# Altium footprint library WEIDMULLER THD.PcbLib: 20 footprints (part 1 of 2)
Each footprint in its own frame and in the unit in brackets; x right, y up, seen from the top. Pads: shape width x height; smd on the part's side, far side on the other; paste and mask are expansions set on the pad; w line width, h text height; cw(c..) or ccw(c..) is an arc to the next point about the centre after c.
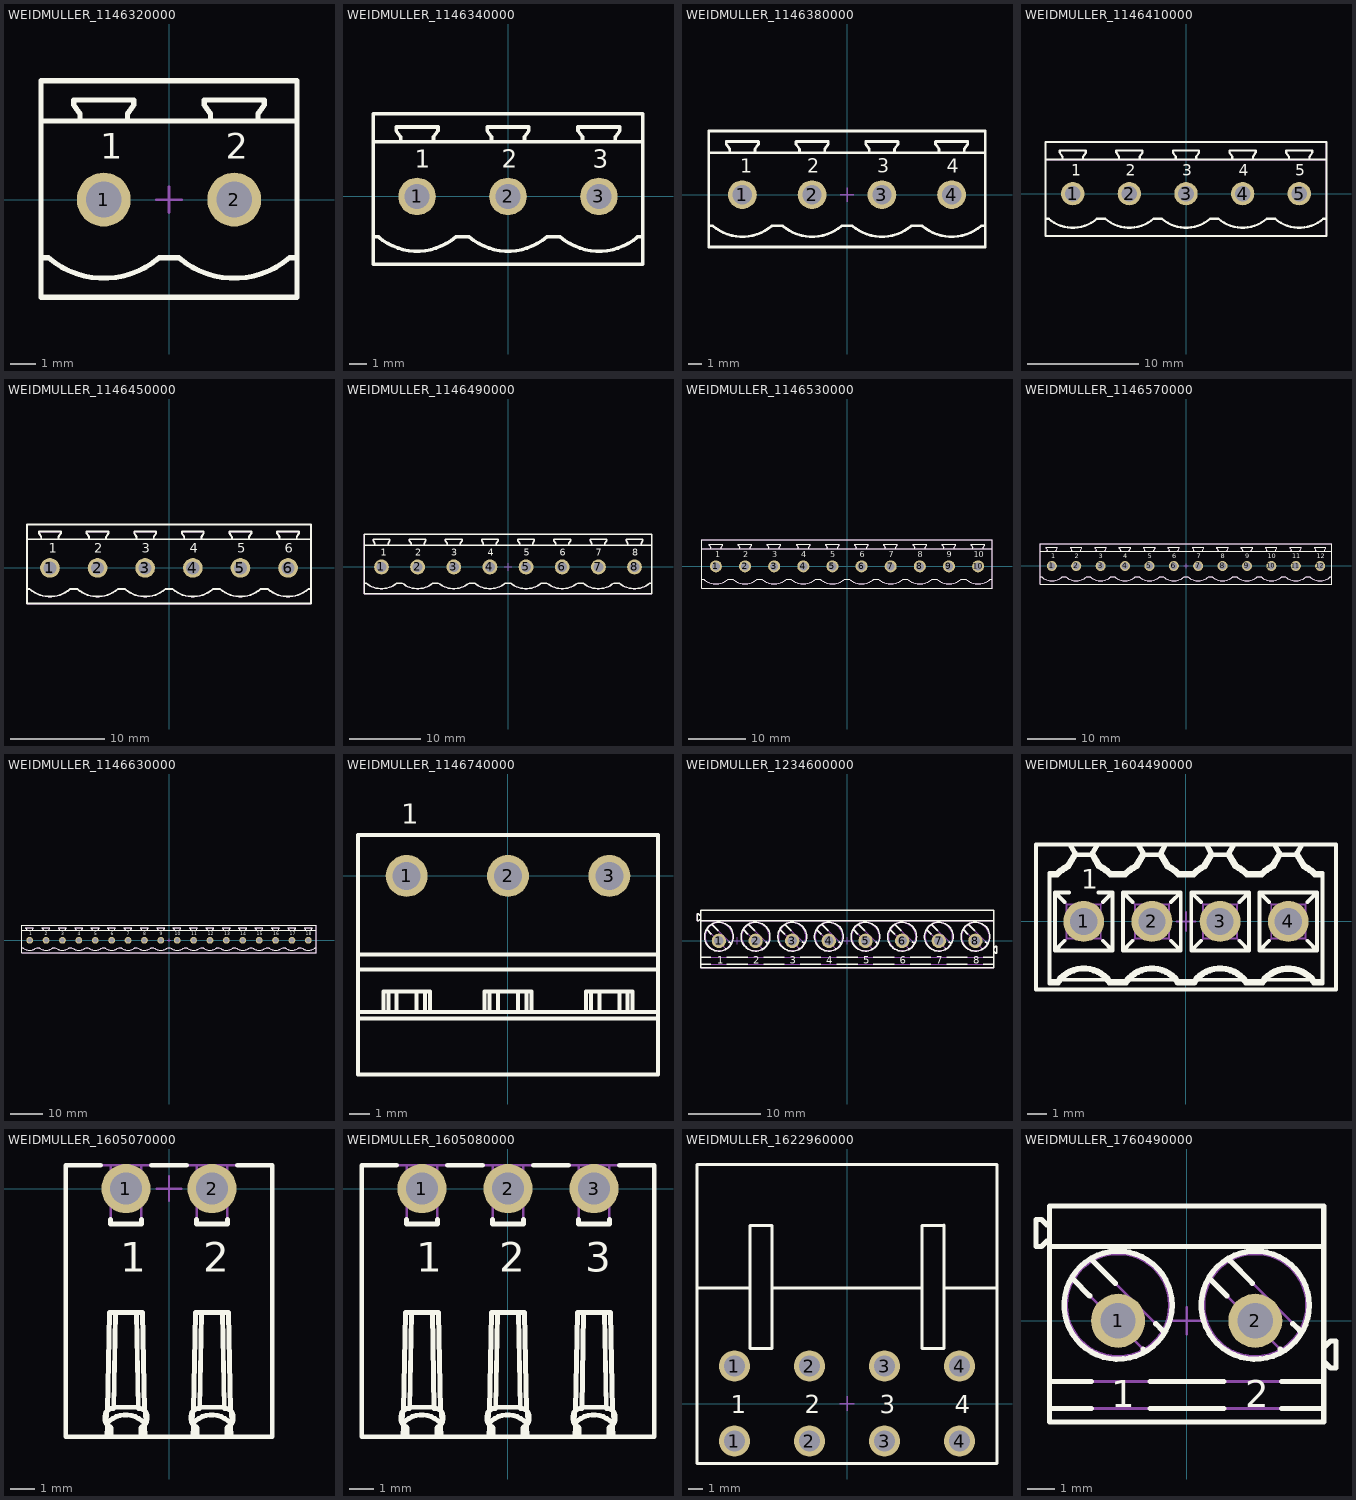
[diagram p0: the footprints below, top view; thin cyan lines are the x and y axes]

## WEIDMULLER_1146320000 [mm] "24A 400 V, Pitch 5.08mm, 2 Positions PCB Male Header, Type SL 5.08HC Serie"
height 12
pads (2):
  round 2.1 hole 1.4: 1(-2.54,0) 2(2.54,0)
Top Overlay:
  lines w0.2: -4.98,-2.26 -4.694,-2.26 ccw(c-2.54,0.24) -0.386,-2.26 0.386,-2.26 ccw(c2.54,0.24) 4.694,-2.26 4.98,-2.26 ; -4.98,3.06 4.98,3.06 ; -3.46,3.06 -3.46,3.323 -3.71,3.68 -3.71,3.88 -1.37,3.88 -1.37,3.68 -1.62,3.323 -1.62,3.06 ; 1.62,3.06 1.62,3.323 1.37,3.68 1.37,3.88 3.71,3.88 3.71,3.68 3.46,3.323 3.46,3.06 ; -4.98,-3.8 4.98,-3.8 4.98,4.63 -4.98,4.63 -4.98,-3.8
  text "2" at 2.2,1.6 h1
  text "1" at -2.675,1.6 h1
Mechanical 8:
  lines w0.1: -3.04,0 -2.54,0 ; -2.54,-0.5 -2.54,0 ; -2.54,0.5 -2.54,0 ; -2.04,0 -2.54,0 ; -0.5,0 0,0 ; 0,-0.5 0,0 ; 0,0.5 0,0 ; 0.5,0 0,0 ; 2.04,0 2.54,0 ; 2.54,-0.5 2.54,0 ; 2.54,0.5 2.54,0 ; 3.04,0 2.54,0
Mechanical 14:
  lines w0.1: -4.98,-2.26 -4.694,-2.26 ccw(c-2.54,0.24) -0.386,-2.26 0.386,-2.26 ccw(c2.54,0.24) 4.694,-2.26 4.98,-2.26 ; -4.98,3.06 4.98,3.06 ; -3.46,3.06 -3.46,3.323 -3.71,3.68 -3.71,3.88 -1.37,3.88 -1.37,3.68 -1.62,3.323 -1.62,3.06 ; 1.62,3.06 1.62,3.323 1.37,3.68 1.37,3.88 3.71,3.88 3.71,3.68 3.46,3.323 3.46,3.06 ; -4.98,-3.8 4.98,-3.8 4.98,4.63 -4.98,4.63 -4.98,-3.8 ; -3.04,-0.332 -2.872,-0.5 -2.2,-0.494 -2.04,-0.332 -2.04,0.332 -2.208,0.5 -2.872,0.5 -3.04,0.332 -3.04,-0.332 ; 2.04,-0.332 2.208,-0.5 2.88,-0.494 3.04,-0.332 3.04,0.332 2.872,0.5 2.208,0.5 2.04,0.332 2.04,-0.332
  text "1" at -2.675,1.6 h1
  text "2" at 2.2,1.6 h1
3D body: height 12, standoff -3.2, extent -4.98,-3.8 4.98,4.63

## WEIDMULLER_1146340000 [mm] "24A 400 V, Pitch 5.08mm, 3 Positions PCB Male Header, Type SL 5.08HC Serie"
height 12
pads (3):
  round 2.1 hole 1.4: 1(-5.08,0) 2(0,0) 3(5.08,0)
Top Overlay:
  lines w0.2: -7.52,-2.26 -7.234,-2.26 ccw(c-5.08,0.24) -2.926,-2.26 -2.154,-2.26 ccw(c0,0.24) 2.154,-2.26 2.926,-2.26 ccw(c5.08,0.24) 7.234,-2.26 7.52,-2.26 ; -7.52,3.06 7.52,3.06 ; -6,3.06 -6,3.323 -6.25,3.68 -6.25,3.88 -3.91,3.88 -3.91,3.68 -4.16,3.323 -4.16,3.06 ; -0.92,3.06 -0.92,3.323 -1.17,3.68 -1.17,3.88 1.17,3.88 1.17,3.68 0.92,3.323 0.92,3.06 ; 4.16,3.06 4.16,3.323 3.91,3.68 3.91,3.88 6.25,3.88 6.25,3.68 6,3.323 6,3.06 ; -7.52,-3.8 -7.52,4.63 7.52,4.63 7.52,-3.8 -7.52,-3.8
  text "3" at 4.74,1.6 h1
  text "1" at -5.215,1.6 h1
  text "2" at -0.34,1.6 h1
Mechanical 8:
  lines w0.1: -5.58,0 -5.08,0 ; -5.08,-0.5 -5.08,0 ; -5.08,0.5 -5.08,0 ; -4.58,0 -5.08,0 ; 4.58,0 5.08,0 ; 5.08,-0.5 5.08,0 ; 5.08,0.5 5.08,0 ; 5.58,0 5.08,0 ; 0,0 0,0.5 0,0 ; 0,0 0.5,0 0,0 ; 0,0 0,-0.5 0,0 ; 0,0 -0.5,0 0,0
Mechanical 14:
  lines w0.1: -7.52,-2.26 -7.234,-2.26 ccw(c-5.08,0.24) -2.926,-2.26 -2.154,-2.26 ccw(c0,0.24) 2.154,-2.26 2.926,-2.26 ccw(c5.08,0.24) 7.234,-2.26 7.52,-2.26 ; -7.52,3.06 7.52,3.06 ; -6,3.06 -6,3.323 -6.25,3.68 -6.25,3.88 -3.91,3.88 -3.91,3.68 -4.16,3.323 -4.16,3.06 ; -0.92,3.06 -0.92,3.323 -1.17,3.68 -1.17,3.88 1.17,3.88 1.17,3.68 0.92,3.323 0.92,3.06 ; 4.16,3.06 4.16,3.323 3.91,3.68 3.91,3.88 6.25,3.88 6.25,3.68 6,3.323 6,3.06 ; -7.52,-3.8 -7.52,4.63 7.52,4.63 7.52,-3.8 -7.52,-3.8 ; -5.58,-0.332 -5.58,0.332 -5.412,0.5 -4.748,0.5 -4.58,0.332 -4.58,-0.332 -4.74,-0.494 -5.412,-0.5 -5.58,-0.332 ; -0.5,-0.332 -0.5,0.332 -0.332,0.5 0.332,0.5 0.5,0.332 0.5,-0.332 0.34,-0.494 -0.332,-0.5 -0.5,-0.332 ; 4.58,-0.332 4.58,0.332 4.748,0.5 5.412,0.5 5.58,0.332 5.58,-0.332 5.42,-0.494 4.748,-0.5 4.58,-0.332
  text "3" at 4.74,1.6 h1
  text "2" at -0.34,1.6 h1
  text "1" at -5.215,1.6 h1
3D body: height 12, standoff -3.2, extent -7.52,-3.8 7.52,4.63

## WEIDMULLER_1146380000 [mm] "24A 400 V, Pitch 5.08mm, 4 Positions PCB Male Header, Type SL 5.08HC Serie"
height 12
pads (4):
  round 2.1 hole 1.4: 1(-7.62,0) 2(-2.54,0) 3(2.54,0) 4(7.62,0)
Top Overlay:
  lines w0.2: -10.06,-2.26 -9.774,-2.26 ccw(c-7.62,0.24) -5.466,-2.26 -4.694,-2.26 ccw(c-2.54,0.24) -0.386,-2.26 0.386,-2.26 ccw(c2.54,0.24) 4.694,-2.26 5.466,-2.26 ccw(c7.62,0.24) 9.774,-2.26 10.06,-2.26 ; -10.06,3.06 10.06,3.06 ; -8.54,3.06 -8.54,3.323 -8.79,3.68 -8.79,3.88 -6.45,3.88 -6.45,3.68 -6.7,3.323 -6.7,3.06 ; -3.46,3.06 -3.46,3.323 -3.71,3.68 -3.71,3.88 -1.37,3.88 -1.37,3.68 -1.62,3.323 -1.62,3.06 ; 1.62,3.06 1.62,3.323 1.37,3.68 1.37,3.88 3.71,3.88 3.71,3.68 3.46,3.323 3.46,3.06 ; 6.7,3.06 6.7,3.323 6.45,3.68 6.45,3.88 8.79,3.88 8.79,3.68 8.54,3.323 8.54,3.06 ; -10.06,-3.8 10.06,-3.8 10.06,4.63 -10.06,4.63 -10.06,-3.8
  text "2" at -2.88,1.6 h1
  text "1" at -7.755,1.6 h1
  text "3" at 2.2,1.6 h1
  text "4" at 7.28,1.6 h1
Mechanical 8:
  lines w0.1: -8.12,0 -7.62,0 ; -7.62,-0.5 -7.62,0 ; -7.62,0.5 -7.62,0 ; -7.12,0 -7.62,0 ; 7.12,0 7.62,0 ; 7.62,-0.5 7.62,0 ; 7.62,0.5 7.62,0 ; 8.12,0 7.62,0 ; -2.54,0 -3.04,0 -2.54,0 ; -2.54,0 -2.54,-0.5 -2.54,0 ; -2.54,0 -2.04,0 -2.54,0 ; -2.54,0 -2.54,0.5 -2.54,0 ; 0,0 -0.5,0 0,0 ; 0,0 0,-0.5 0,0 ; 0,0 0.5,0 0,0 ; 0,0 0,0.5 0,0 ; 2.54,0 2.04,0 2.54,0 ; 2.54,0 2.54,-0.5 2.54,0 ; 2.54,0 3.04,0 2.54,0 ; 2.54,0 2.54,0.5 2.54,0
Mechanical 14:
  lines w0.1: -10.06,-2.26 -9.774,-2.26 ccw(c-7.62,0.24) -5.466,-2.26 -4.694,-2.26 ccw(c-2.54,0.24) -0.386,-2.26 0.386,-2.26 ccw(c2.54,0.24) 4.694,-2.26 5.466,-2.26 ccw(c7.62,0.24) 9.774,-2.26 10.06,-2.26 ; -10.06,3.06 10.06,3.06 ; -8.54,3.06 -8.54,3.323 -8.79,3.68 -8.79,3.88 -6.45,3.88 -6.45,3.68 -6.7,3.323 -6.7,3.06 ; -3.46,3.06 -3.46,3.323 -3.71,3.68 -3.71,3.88 -1.37,3.88 -1.37,3.68 -1.62,3.323 -1.62,3.06 ; 1.62,3.06 1.62,3.323 1.37,3.68 1.37,3.88 3.71,3.88 3.71,3.68 3.46,3.323 3.46,3.06 ; 6.7,3.06 6.7,3.323 6.45,3.68 6.45,3.88 8.79,3.88 8.79,3.68 8.54,3.323 8.54,3.06 ; -10.06,-3.8 10.06,-3.8 10.06,4.63 -10.06,4.63 -10.06,-3.8 ; -8.12,-0.332 -7.952,-0.5 -7.28,-0.494 -7.12,-0.332 -7.12,0.332 -7.288,0.5 -7.952,0.5 -8.12,0.332 -8.12,-0.332 ; -3.04,-0.332 -2.872,-0.5 -2.2,-0.494 -2.04,-0.332 -2.04,0.332 -2.208,0.5 -2.872,0.5 -3.04,0.332 -3.04,-0.332 ; 2.04,-0.332 2.208,-0.5 2.88,-0.494 3.04,-0.332 3.04,0.332 2.872,0.5 2.208,0.5 2.04,0.332 2.04,-0.332 ; 7.12,-0.332 7.288,-0.5 7.96,-0.494 8.12,-0.332 8.12,0.332 7.952,0.5 7.288,0.5 7.12,0.332 7.12,-0.332
  text "1" at -7.755,1.6 h1
  text "2" at -2.88,1.6 h1
  text "3" at 2.2,1.6 h1
  text "4" at 7.28,1.6 h1
3D body: height 12, standoff -3.2, extent -10.06,-3.8 10.06,4.63

## WEIDMULLER_1146410000 [mm] "24A 400 V, Pitch 5.08mm, 5 Positions PCB Male Header, Type SL 5.08HC Serie"
height 12
pads (5):
  round 2.1 hole 1.4: 1(-10.16,0) 2(-5.08,0) 3(0,0) 4(5.08,0) 5(10.16,0)
Top Overlay:
  lines w0.2: -12.6,-2.26 -12.314,-2.26 ccw(c-10.16,0.24) -8.006,-2.26 -7.234,-2.26 ccw(c-5.08,0.24) -2.926,-2.26 -2.154,-2.26 ccw(c0,0.24) 2.154,-2.26 2.926,-2.26 ccw(c5.08,0.24) 7.234,-2.26 8.006,-2.26 ccw(c10.16,0.24) 12.314,-2.26 12.6,-2.26 ; -12.6,3.06 12.6,3.06 ; -11.08,3.06 -11.08,3.323 -11.33,3.68 -11.33,3.88 -8.99,3.88 -8.99,3.68 -9.24,3.323 -9.24,3.06 ; -6,3.06 -6,3.323 -6.25,3.68 -6.25,3.88 -3.91,3.88 -3.91,3.68 -4.16,3.323 -4.16,3.06 ; -0.92,3.06 -0.92,3.323 -1.17,3.68 -1.17,3.88 1.17,3.88 1.17,3.68 0.92,3.323 0.92,3.06 ; 4.16,3.06 4.16,3.323 3.91,3.68 3.91,3.88 6.25,3.88 6.25,3.68 6,3.323 6,3.06 ; 9.24,3.06 9.24,3.323 8.99,3.68 8.99,3.88 11.33,3.88 11.33,3.68 11.08,3.323 11.08,3.06 ; -12.6,-3.8 -12.6,4.63 12.6,4.63 12.6,-3.8 -12.6,-3.8
  text "5" at 9.82,1.6 h1
  text "4" at 4.74,1.6 h1
  text "2" at -5.42,1.6 h1
  text "1" at -10.295,1.6 h1
  text "3" at -0.34,1.6 h1
Mechanical 8:
  lines w0.1: -10.66,0 -10.16,0 ; -10.16,-0.5 -10.16,0 ; -10.16,0.5 -10.16,0 ; -9.66,0 -10.16,0 ; 9.66,0 10.16,0 ; 10.16,-0.5 10.16,0 ; 10.16,0.5 10.16,0 ; 10.66,0 10.16,0 ; -5.08,0 -5.08,0.5 -5.08,0 ; -5.08,0 -4.58,0 -5.08,0 ; -5.08,0 -5.08,-0.5 -5.08,0 ; -5.08,0 -5.58,0 -5.08,0 ; -0.5,0 0,0 ; -0.5,0 0,0 ; -0.5,0 0,0 ; -0.5,0 0,0 ; 0,-0.5 0,0 ; 0,-0.5 0,0 ; 0,-0.5 0,0 ; 0,-0.5 0,0 ; 0,0 0,0.5 ; 0,0 0.5,0 ; 0,0 0,0.5 ; 0,0 0.5,0 ; 0,0 0,0.5 ; 0,0 0.5,0 ; 0,0 0,0.5 ; 0,0 0.5,0 ; 5.08,0 5.08,0.5 5.08,0 ; 5.08,0 5.58,0 5.08,0 ; 5.08,0 5.08,-0.5 5.08,0 ; 5.08,0 4.58,0 5.08,0
Mechanical 14:
  lines w0.1: -12.6,-2.26 -12.314,-2.26 ccw(c-10.16,0.24) -8.006,-2.26 -7.234,-2.26 ccw(c-5.08,0.24) -2.926,-2.26 -2.154,-2.26 ccw(c0,0.24) 2.154,-2.26 2.926,-2.26 ccw(c5.08,0.24) 7.234,-2.26 8.006,-2.26 ccw(c10.16,0.24) 12.314,-2.26 12.6,-2.26 ; -12.6,3.06 12.6,3.06 ; -11.08,3.06 -11.08,3.323 -11.33,3.68 -11.33,3.88 -8.99,3.88 -8.99,3.68 -9.24,3.323 -9.24,3.06 ; -6,3.06 -6,3.323 -6.25,3.68 -6.25,3.88 -3.91,3.88 -3.91,3.68 -4.16,3.323 -4.16,3.06 ; -0.92,3.06 -0.92,3.323 -1.17,3.68 -1.17,3.88 1.17,3.88 1.17,3.68 0.92,3.323 0.92,3.06 ; 4.16,3.06 4.16,3.323 3.91,3.68 3.91,3.88 6.25,3.88 6.25,3.68 6,3.323 6,3.06 ; 9.24,3.06 9.24,3.323 8.99,3.68 8.99,3.88 11.33,3.88 11.33,3.68 11.08,3.323 11.08,3.06 ; -12.6,-3.8 -12.6,4.63 12.6,4.63 12.6,-3.8 -12.6,-3.8 ; -10.66,-0.332 -10.66,0.332 -10.492,0.5 -9.828,0.5 -9.66,0.332 -9.66,-0.332 -9.82,-0.494 -10.492,-0.5 -10.66,-0.332 ; -5.58,-0.332 -5.58,0.332 -5.412,0.5 -4.748,0.5 -4.58,0.332 -4.58,-0.332 -4.74,-0.494 -5.412,-0.5 -5.58,-0.332 ; -0.5,-0.332 -0.5,0.332 -0.332,0.5 0.332,0.5 0.5,0.332 0.5,-0.332 0.34,-0.494 -0.332,-0.5 -0.5,-0.332 ; 4.58,-0.332 4.58,0.332 4.748,0.5 5.412,0.5 5.58,0.332 5.58,-0.332 5.42,-0.494 4.748,-0.5 4.58,-0.332 ; 9.66,-0.332 9.66,0.332 9.828,0.5 10.492,0.5 10.66,0.332 10.66,-0.332 10.5,-0.494 9.828,-0.5 9.66,-0.332
  text "5" at 9.82,1.6 h1
  text "4" at 4.74,1.6 h1
  text "1" at -10.295,1.6 h1
  text "2" at -5.42,1.6 h1
  text "3" at -0.34,1.6 h1
3D body: height 12, standoff -3.2, extent -12.6,-3.8 12.6,4.63

## WEIDMULLER_1146450000 [mm] "24A 400 V, Pitch 5.08mm, 6 Positions PCB Male Header, Type SL 5.08HC Serie"
height 12
pads (6):
  round 2.1 hole 1.4: 1(-12.7,0) 2(-7.62,0) 3(-2.54,0) 4(2.54,0) 5(7.62,0) 6(12.7,0)
Top Overlay:
  lines w0.2: -15.14,-2.26 -14.854,-2.26 ccw(c-12.7,0.24) -10.546,-2.26 -9.774,-2.26 ccw(c-7.62,0.24) -5.466,-2.26 -4.694,-2.26 ccw(c-2.54,0.24) -0.386,-2.26 0.386,-2.26 ccw(c2.54,0.24) 4.694,-2.26 5.466,-2.26 ccw(c7.62,0.24) 9.774,-2.26 10.546,-2.26 ccw(c12.7,0.24) 14.854,-2.26 15.14,-2.26 ; -15.14,3.06 15.14,3.06 ; -13.62,3.06 -13.62,3.323 -13.87,3.68 -13.87,3.88 -11.53,3.88 -11.53,3.68 -11.78,3.323 -11.78,3.06 ; -8.54,3.06 -8.54,3.323 -8.79,3.68 -8.79,3.88 -6.45,3.88 -6.45,3.68 -6.7,3.323 -6.7,3.06 ; -3.46,3.06 -3.46,3.323 -3.71,3.68 -3.71,3.88 -1.37,3.88 -1.37,3.68 -1.62,3.323 -1.62,3.06 ; 1.62,3.06 1.62,3.323 1.37,3.68 1.37,3.88 3.71,3.88 3.71,3.68 3.46,3.323 3.46,3.06 ; 6.7,3.06 6.7,3.323 6.45,3.68 6.45,3.88 8.79,3.88 8.79,3.68 8.54,3.323 8.54,3.06 ; 11.78,3.06 11.78,3.323 11.53,3.68 11.53,3.88 13.87,3.88 13.87,3.68 13.62,3.323 13.62,3.06 ; -15.14,-3.8 15.14,-3.8 15.14,4.63 -15.14,4.63 -15.14,-3.8
  text "3" at -2.88,1.6 h1
  text "1" at -12.835,1.6 h1
  text "2" at -7.96,1.6 h1
  text "4" at 2.2,1.6 h1
  text "5" at 7.28,1.6 h1
  text "6" at 12.36,1.6 h1
Mechanical 8:
  lines w0.1: -13.2,0 -12.7,0 ; -12.7,-0.5 -12.7,0 ; -12.7,0.5 -12.7,0 ; -12.2,0 -12.7,0 ; 7.12,0 7.62,0 ; 7.62,-0.5 7.62,0 ; 7.62,0.5 7.62,0 ; 8.12,0 7.62,0 ; 12.2,0 12.7,0 ; 12.7,-0.5 12.7,0 ; 12.7,0.5 12.7,0 ; 13.2,0 12.7,0 ; -7.62,0 -8.12,0 -7.62,0 ; -7.62,0 -7.62,-0.5 -7.62,0 ; -7.62,0 -7.12,0 -7.62,0 ; -7.62,0 -7.62,0.5 -7.62,0 ; -3.04,0 -2.54,0 ; -3.04,0 -2.54,0 ; -3.04,0 -2.54,0 ; -3.04,0 -2.54,0 ; -3.04,0 -2.54,0 ; -3.04,0 -2.54,0 ; -3.04,0 -2.54,0 ; -3.04,0 -2.54,0 ; -2.54,-0.5 -2.54,0 ; -2.54,-0.5 -2.54,0 ; -2.54,-0.5 -2.54,0 ; -2.54,-0.5 -2.54,0 ; -2.54,-0.5 -2.54,0 ; -2.54,-0.5 -2.54,0 ; -2.54,-0.5 -2.54,0 ; -2.54,-0.5 -2.54,0 ; -2.54,0 -2.04,0 ; -2.54,0 -2.54,0.5 ; -2.54,0 -2.04,0 ; -2.54,0 -2.54,0.5 ; -2.54,0 -2.04,0 ; -2.54,0 -2.54,0.5 ; -2.54,0 -2.04,0 ; -2.54,0 -2.54,0.5 ; -2.54,0 -2.04,0 ; -2.54,0 -2.54,0.5 ; -2.54,0 -2.04,0 ; -2.54,0 -2.54,0.5 ; -2.54,0 -2.04,0 ; -2.54,0 -2.54,0.5 ; -2.54,0 -2.04,0 ; -2.54,0 -2.54,0.5 ; 2.54,0 2.04,0 2.54,0 ; 2.54,0 2.54,-0.5 2.54,0 ; 2.54,0 3.04,0 2.54,0 ; 2.54,0 2.54,0.5 2.54,0
Mechanical 14:
  lines w0.1: -15.14,-2.26 -14.854,-2.26 ccw(c-12.7,0.24) -10.546,-2.26 -9.774,-2.26 ccw(c-7.62,0.24) -5.466,-2.26 -4.694,-2.26 ccw(c-2.54,0.24) -0.386,-2.26 0.386,-2.26 ccw(c2.54,0.24) 4.694,-2.26 5.466,-2.26 ccw(c7.62,0.24) 9.774,-2.26 10.546,-2.26 ccw(c12.7,0.24) 14.854,-2.26 15.14,-2.26 ; -15.14,3.06 15.14,3.06 ; -13.62,3.06 -13.62,3.323 -13.87,3.68 -13.87,3.88 -11.53,3.88 -11.53,3.68 -11.78,3.323 -11.78,3.06 ; -8.54,3.06 -8.54,3.323 -8.79,3.68 -8.79,3.88 -6.45,3.88 -6.45,3.68 -6.7,3.323 -6.7,3.06 ; -3.46,3.06 -3.46,3.323 -3.71,3.68 -3.71,3.88 -1.37,3.88 -1.37,3.68 -1.62,3.323 -1.62,3.06 ; 1.62,3.06 1.62,3.323 1.37,3.68 1.37,3.88 3.71,3.88 3.71,3.68 3.46,3.323 3.46,3.06 ; 6.7,3.06 6.7,3.323 6.45,3.68 6.45,3.88 8.79,3.88 8.79,3.68 8.54,3.323 8.54,3.06 ; 11.78,3.06 11.78,3.323 11.53,3.68 11.53,3.88 13.87,3.88 13.87,3.68 13.62,3.323 13.62,3.06 ; -15.14,-3.8 15.14,-3.8 15.14,4.63 -15.14,4.63 -15.14,-3.8 ; -13.2,-0.332 -13.032,-0.5 -12.36,-0.494 -12.2,-0.332 -12.2,0.332 -12.368,0.5 -13.032,0.5 -13.2,0.332 -13.2,-0.332 ; -8.12,-0.332 -7.952,-0.5 -7.28,-0.494 -7.12,-0.332 -7.12,0.332 -7.288,0.5 -7.952,0.5 -8.12,0.332 -8.12,-0.332 ; -3.04,-0.332 -2.872,-0.5 -2.2,-0.494 -2.04,-0.332 -2.04,0.332 -2.208,0.5 -2.872,0.5 -3.04,0.332 -3.04,-0.332 ; 2.04,-0.332 2.208,-0.5 2.88,-0.494 3.04,-0.332 3.04,0.332 2.872,0.5 2.208,0.5 2.04,0.332 2.04,-0.332 ; 7.12,-0.332 7.288,-0.5 7.96,-0.494 8.12,-0.332 8.12,0.332 7.952,0.5 7.288,0.5 7.12,0.332 7.12,-0.332 ; 12.2,-0.332 12.368,-0.5 13.04,-0.494 13.2,-0.332 13.2,0.332 13.032,0.5 12.368,0.5 12.2,0.332 12.2,-0.332
  text "3" at -2.88,1.6 h1
  text "2" at -7.96,1.6 h1
  text "1" at -12.835,1.6 h1
  text "4" at 2.2,1.6 h1
  text "5" at 7.28,1.6 h1
  text "6" at 12.36,1.6 h1
3D body: height 12, standoff -3.2, extent -15.14,-3.8 15.14,4.63

## WEIDMULLER_1146490000 [mm] "24A 400 V, Pitch 5.08mm, 8 Positions PCB Male Header, Type SL 5.08HC Serie"
height 12
pads (8):
  round 2.1 hole 1.4: 1(-17.78,0) 2(-12.7,0) 3(-7.62,0) 4(-2.54,0) 5(2.54,0) 6(7.62,0) 7(12.7,0) 8(17.78,0)
Top Overlay:
  lines w0.2: -20.22,-2.26 -19.934,-2.26 ccw(c-17.78,0.24) -15.626,-2.26 -14.854,-2.26 ccw(c-12.7,0.24) -10.546,-2.26 -9.774,-2.26 ccw(c-7.62,0.24) -5.466,-2.26 -4.694,-2.26 ccw(c-2.54,0.24) -0.386,-2.26 0.386,-2.26 ccw(c2.54,0.24) 4.694,-2.26 5.466,-2.26 ccw(c7.62,0.24) 9.774,-2.26 10.546,-2.26 ccw(c12.7,0.24) 14.854,-2.26 15.626,-2.26 ccw(c17.78,0.24) 19.934,-2.26 20.22,-2.26 ; -20.22,3.06 20.22,3.06 ; -18.7,3.06 -18.7,3.323 -18.95,3.68 -18.95,3.88 -16.61,3.88 -16.61,3.68 -16.86,3.323 -16.86,3.06 ; -13.62,3.06 -13.62,3.323 -13.87,3.68 -13.87,3.88 -11.53,3.88 -11.53,3.68 -11.78,3.323 -11.78,3.06 ; -8.54,3.06 -8.54,3.323 -8.79,3.68 -8.79,3.88 -6.45,3.88 -6.45,3.68 -6.7,3.323 -6.7,3.06 ; -3.46,3.06 -3.46,3.323 -3.71,3.68 -3.71,3.88 -1.37,3.88 -1.37,3.68 -1.62,3.323 -1.62,3.06 ; 1.62,3.06 1.62,3.323 1.37,3.68 1.37,3.88 3.71,3.88 3.71,3.68 3.46,3.323 3.46,3.06 ; 6.7,3.06 6.7,3.323 6.45,3.68 6.45,3.88 8.79,3.88 8.79,3.68 8.54,3.323 8.54,3.06 ; 11.78,3.06 11.78,3.323 11.53,3.68 11.53,3.88 13.87,3.88 13.87,3.68 13.62,3.323 13.62,3.06 ; 16.86,3.06 16.86,3.323 16.61,3.68 16.61,3.88 18.95,3.88 18.95,3.68 18.7,3.323 18.7,3.06 ; -20.22,-3.8 -20.22,4.63 20.22,4.63 20.22,-3.8 -20.22,-3.8
  text "8" at 17.44,1.6 h1
  text "7" at 12.36,1.6 h1
  text "3" at -7.96,1.6 h1
  text "1" at -17.915,1.6 h1
  text "2" at -13.04,1.6 h1
  text "4" at -2.88,1.6 h1
  text "5" at 2.2,1.6 h1
  text "6" at 7.28,1.6 h1
Mechanical 8:
  lines w0.1: -18.28,0 -17.78,0 ; -17.78,-0.5 -17.78,0 ; -17.78,0.5 -17.78,0 ; -17.28,0 -17.78,0 ; 2.04,0 2.54,0 ; 2.54,-0.5 2.54,0 ; 2.54,0.5 2.54,0 ; 3.04,0 2.54,0 ; 7.12,0 7.62,0 ; 7.62,-0.5 7.62,0 ; 7.62,0.5 7.62,0 ; 8.12,0 7.62,0 ; 12.2,0 12.7,0 ; 12.7,-0.5 12.7,0 ; 12.7,0.5 12.7,0 ; 13.2,0 12.7,0 ; 17.28,0 17.78,0 ; 17.78,-0.5 17.78,0 ; 17.78,0.5 17.78,0 ; 18.28,0 17.78,0 ; -12.7,0 -12.7,0.5 -12.7,0 ; -12.7,0 -12.2,0 -12.7,0 ; -12.7,0 -12.7,-0.5 -12.7,0 ; -12.7,0 -13.2,0 -12.7,0 ; -8.12,0 -7.62,0 ; -8.12,0 -7.62,0 ; -8.12,0 -7.62,0 ; -8.12,0 -7.62,0 ; -7.62,-0.5 -7.62,0 ; -7.62,-0.5 -7.62,0 ; -7.62,-0.5 -7.62,0 ; -7.62,-0.5 -7.62,0 ; -7.62,0 -7.62,0.5 ; -7.62,0 -7.12,0 ; -7.62,0 -7.62,0.5 ; -7.62,0 -7.12,0 ; -7.62,0 -7.62,0.5 ; -7.62,0 -7.12,0 ; -7.62,0 -7.62,0.5 ; -7.62,0 -7.12,0 ; -2.54,0 -2.54,0.5 -2.54,0 ; -2.54,0 -2.04,0 -2.54,0 ; -2.54,0 -2.54,-0.5 -2.54,0 ; -2.54,0 -3.04,0 -2.54,0 ; -0.5,0 0,0 ; -0.5,0 0,0 ; -0.5,0 0,0 ; -0.5,0 0,0 ; 0,-0.5 0,0 ; 0,-0.5 0,0 ; 0,-0.5 0,0 ; 0,-0.5 0,0 ; 0,0 0,0.5 ; 0,0 0.5,0 ; 0,0 0,0.5 ; 0,0 0.5,0 ; 0,0 0,0.5 ; 0,0 0.5,0 ; 0,0 0,0.5 ; 0,0 0.5,0
Mechanical 14:
  lines w0.1: -20.22,-2.26 -19.934,-2.26 ccw(c-17.78,0.24) -15.626,-2.26 -14.854,-2.26 ccw(c-12.7,0.24) -10.546,-2.26 -9.774,-2.26 ccw(c-7.62,0.24) -5.466,-2.26 -4.694,-2.26 ccw(c-2.54,0.24) -0.386,-2.26 0.386,-2.26 ccw(c2.54,0.24) 4.694,-2.26 5.466,-2.26 ccw(c7.62,0.24) 9.774,-2.26 10.546,-2.26 ccw(c12.7,0.24) 14.854,-2.26 15.626,-2.26 ccw(c17.78,0.24) 19.934,-2.26 20.22,-2.26 ; -20.22,3.06 20.22,3.06 ; -18.7,3.06 -18.7,3.323 -18.95,3.68 -18.95,3.88 -16.61,3.88 -16.61,3.68 -16.86,3.323 -16.86,3.06 ; -13.62,3.06 -13.62,3.323 -13.87,3.68 -13.87,3.88 -11.53,3.88 -11.53,3.68 -11.78,3.323 -11.78,3.06 ; -8.54,3.06 -8.54,3.323 -8.79,3.68 -8.79,3.88 -6.45,3.88 -6.45,3.68 -6.7,3.323 -6.7,3.06 ; -3.46,3.06 -3.46,3.323 -3.71,3.68 -3.71,3.88 -1.37,3.88 -1.37,3.68 -1.62,3.323 -1.62,3.06 ; 1.62,3.06 1.62,3.323 1.37,3.68 1.37,3.88 3.71,3.88 3.71,3.68 3.46,3.323 3.46,3.06 ; 6.7,3.06 6.7,3.323 6.45,3.68 6.45,3.88 8.79,3.88 8.79,3.68 8.54,3.323 8.54,3.06 ; 11.78,3.06 11.78,3.323 11.53,3.68 11.53,3.88 13.87,3.88 13.87,3.68 13.62,3.323 13.62,3.06 ; 16.86,3.06 16.86,3.323 16.61,3.68 16.61,3.88 18.95,3.88 18.95,3.68 18.7,3.323 18.7,3.06 ; -20.22,-3.8 -20.22,4.63 20.22,4.63 20.22,-3.8 -20.22,-3.8 ; -18.28,-0.332 -18.28,0.332 -18.112,0.5 -17.448,0.5 -17.28,0.332 -17.28,-0.332 -17.44,-0.494 -18.112,-0.5 -18.28,-0.332 ; -13.2,-0.332 -13.2,0.332 -13.032,0.5 -12.368,0.5 -12.2,0.332 -12.2,-0.332 -12.36,-0.494 -13.032,-0.5 -13.2,-0.332 ; -8.12,-0.332 -8.12,0.332 -7.952,0.5 -7.288,0.5 -7.12,0.332 -7.12,-0.332 -7.28,-0.494 -7.952,-0.5 -8.12,-0.332 ; -3.04,-0.332 -3.04,0.332 -2.872,0.5 -2.208,0.5 -2.04,0.332 -2.04,-0.332 -2.2,-0.494 -2.872,-0.5 -3.04,-0.332 ; 2.04,-0.332 2.04,0.332 2.208,0.5 2.872,0.5 3.04,0.332 3.04,-0.332 2.88,-0.494 2.208,-0.5 2.04,-0.332 ; 7.12,-0.332 7.12,0.332 7.288,0.5 7.952,0.5 8.12,0.332 8.12,-0.332 7.96,-0.494 7.288,-0.5 7.12,-0.332 ; 12.2,-0.332 12.2,0.332 12.368,0.5 13.032,0.5 13.2,0.332 13.2,-0.332 13.04,-0.494 12.368,-0.5 12.2,-0.332 ; 17.28,-0.332 17.28,0.332 17.448,0.5 18.112,0.5 18.28,0.332 18.28,-0.332 18.12,-0.494 17.448,-0.5 17.28,-0.332
  text "8" at 17.44,1.6 h1
  text "7" at 12.36,1.6 h1
  text "3" at -7.96,1.6 h1
  text "2" at -13.04,1.6 h1
  text "1" at -17.915,1.6 h1
  text "4" at -2.88,1.6 h1
  text "5" at 2.2,1.6 h1
  text "6" at 7.28,1.6 h1
3D body: height 12, standoff -3.2, extent -20.22,-3.8 20.22,4.63

## WEIDMULLER_1146530000 [mm] "24A 400 V, Pitch 5.08mm, 10 Positions PCB Male Header, Type SL 5.08HC Serie"
height 12
pads (10):
  round 2.1 hole 1.4: 1(-22.86,0) 2(-17.78,0) 3(-12.7,0) 4(-7.62,0) 5(-2.54,0) 6(2.54,0) 7(7.62,0) 8(12.7,0) 9(17.78,0) 10(22.86,0)
Top Overlay:
  lines w0.2: -25.3,-2.26 -25.014,-2.26 ccw(c-22.86,0.24) -20.706,-2.26 -19.934,-2.26 ccw(c-17.78,0.24) -15.626,-2.26 -14.854,-2.26 ccw(c-12.7,0.24) -10.546,-2.26 -9.774,-2.26 ccw(c-7.62,0.24) -5.466,-2.26 -4.694,-2.26 ccw(c-2.54,0.24) -0.386,-2.26 0.386,-2.26 ccw(c2.54,0.24) 4.694,-2.26 5.466,-2.26 ccw(c7.62,0.24) 9.774,-2.26 10.546,-2.26 ccw(c12.7,0.24) 14.854,-2.26 15.626,-2.26 ccw(c17.78,0.24) 19.934,-2.26 20.706,-2.26 ccw(c22.86,0.24) 25.014,-2.26 25.3,-2.26 ; -25.3,3.06 25.28,3.06 ; -23.78,3.06 -23.78,3.323 -24.03,3.68 -24.03,3.88 -21.69,3.88 -21.69,3.68 -21.94,3.323 -21.94,3.06 ; -18.7,3.06 -18.7,3.323 -18.95,3.68 -18.95,3.88 -16.61,3.88 -16.61,3.68 -16.86,3.323 -16.86,3.06 ; -13.62,3.06 -13.62,3.323 -13.87,3.68 -13.87,3.88 -11.53,3.88 -11.53,3.68 -11.78,3.323 -11.78,3.06 ; -8.54,3.06 -8.54,3.323 -8.79,3.68 -8.79,3.88 -6.45,3.88 -6.45,3.68 -6.7,3.323 -6.7,3.06 ; -3.46,3.06 -3.46,3.323 -3.71,3.68 -3.71,3.88 -1.37,3.88 -1.37,3.68 -1.62,3.323 -1.62,3.06 ; 1.62,3.06 1.62,3.323 1.37,3.68 1.37,3.88 3.71,3.88 3.71,3.68 3.46,3.323 3.46,3.06 ; 6.7,3.06 6.7,3.323 6.45,3.68 6.45,3.88 8.79,3.88 8.79,3.68 8.54,3.323 8.54,3.06 ; 11.78,3.06 11.78,3.323 11.53,3.68 11.53,3.88 13.87,3.88 13.87,3.68 13.62,3.323 13.62,3.06 ; 16.86,3.06 16.86,3.323 16.61,3.68 16.61,3.88 18.95,3.88 18.95,3.68 18.7,3.323 18.7,3.06 ; 21.94,3.06 21.94,3.323 21.69,3.68 21.69,3.88 24.03,3.88 24.03,3.68 23.78,3.323 23.78,3.06 ; -25.3,-3.8 -25.3,4.63 25.3,4.63 25.3,-3.8 -25.3,-3.8
  text "9" at 17.44,1.6 h1
  text "10" at 22.12,1.6 h1
  text "8" at 12.36,1.6 h1
  text "7" at 7.28,1.6 h1
  text "3" at -13.04,1.6 h1
  text "1" at -22.995,1.6 h1
  text "2" at -18.12,1.6 h1
  text "4" at -7.96,1.6 h1
  text "5" at -2.88,1.6 h1
  text "6" at 2.2,1.6 h1
Mechanical 14:
  drawing of 176 lines, arcs and shapes, not listed
  text "9" at 17.44,1.6 h1
  text "10" at 22.12,1.6 h1
  text "8" at 12.36,1.6 h1
  text "7" at 7.28,1.6 h1
  text "3" at -13.04,1.6 h1
  text "2" at -18.12,1.6 h1
  text "1" at -22.995,1.6 h1
  text "4" at -7.96,1.6 h1
  text "5" at -2.88,1.6 h1
  text "6" at 2.2,1.6 h1
3D body: height 12, standoff -3.2, extent -25.3,-3.8 25.3,4.63

## WEIDMULLER_1146570000 [mm] "24A 400 V, Pitch 5.08mm, 12 Positions PCB Male Header, Type SL 5.08HC Serie"
height 12
pads (12):
  round 2.1 hole 1.4: 1(-27.94,0) 2(-22.86,0) 3(-17.78,0) 4(-12.7,0) 5(-7.62,0) 6(-2.54,0) 7(2.54,0) 8(7.62,0) 9(12.7,0) 10(17.78,0) 11(22.86,0) 12(27.94,0)
Top Overlay:
  lines w0.2: -30.38,-2.26 -30.094,-2.26 ccw(c-27.94,0.24) -25.786,-2.26 -25.014,-2.26 ccw(c-22.86,0.24) -20.706,-2.26 -19.934,-2.26 ccw(c-17.78,0.24) -15.626,-2.26 -14.854,-2.26 ccw(c-12.7,0.24) -10.546,-2.26 -9.774,-2.26 ccw(c-7.62,0.24) -5.466,-2.26 -4.694,-2.26 ccw(c-2.54,0.24) -0.386,-2.26 0.386,-2.26 ccw(c2.54,0.24) 4.694,-2.26 5.466,-2.26 ccw(c7.62,0.24) 9.774,-2.26 10.546,-2.26 ccw(c12.7,0.24) 14.854,-2.26 15.626,-2.26 ccw(c17.78,0.24) 19.934,-2.26 20.706,-2.26 ccw(c22.86,0.24) 25.014,-2.26 25.786,-2.26 ccw(c27.94,0.24) 30.094,-2.26 30.38,-2.26 ; -30.38,3.06 30.38,3.06 ; -28.86,3.06 -28.86,3.323 -29.11,3.68 -29.11,3.88 -26.77,3.88 -26.77,3.68 -27.02,3.323 -27.02,3.06 ; -23.78,3.06 -23.78,3.323 -24.03,3.68 -24.03,3.88 -21.69,3.88 -21.69,3.68 -21.94,3.323 -21.94,3.06 ; -18.7,3.06 -18.7,3.323 -18.95,3.68 -18.95,3.88 -16.61,3.88 -16.61,3.68 -16.86,3.323 -16.86,3.06 ; -13.62,3.06 -13.62,3.323 -13.87,3.68 -13.87,3.88 -11.53,3.88 -11.53,3.68 -11.78,3.323 -11.78,3.06 ; -8.54,3.06 -8.54,3.323 -8.79,3.68 -8.79,3.88 -6.45,3.88 -6.45,3.68 -6.7,3.323 -6.7,3.06 ; -3.46,3.06 -3.46,3.323 -3.71,3.68 -3.71,3.88 -1.37,3.88 -1.37,3.68 -1.62,3.323 -1.62,3.06 ; 1.62,3.06 1.62,3.323 1.37,3.68 1.37,3.88 3.71,3.88 3.71,3.68 3.46,3.323 3.46,3.06 ; 6.7,3.06 6.7,3.323 6.45,3.68 6.45,3.88 8.79,3.88 8.79,3.68 8.54,3.323 8.54,3.06 ; 11.78,3.06 11.78,3.323 11.53,3.68 11.53,3.88 13.87,3.88 13.87,3.68 13.62,3.323 13.62,3.06 ; 16.86,3.06 16.86,3.323 16.61,3.68 16.61,3.88 18.95,3.88 18.95,3.68 18.7,3.323 18.7,3.06 ; 21.94,3.06 21.94,3.323 21.69,3.68 21.69,3.88 24.03,3.88 24.03,3.68 23.78,3.323 23.78,3.06 ; 27.02,3.06 27.02,3.323 26.77,3.68 26.77,3.88 29.11,3.88 29.11,3.68 28.86,3.323 28.86,3.06 ; -30.38,-3.8 30.38,-3.8 30.38,4.63 -30.38,4.63 -30.38,-3.8
  text "6" at -2.88,1.6 h1
  text "5" at -7.96,1.6 h1
  text "4" at -13.04,1.6 h1
  text "2" at -23.2,1.6 h1
  text "1" at -28.075,1.6 h1
  text "3" at -18.12,1.6 h1
  text "7" at 2.2,1.6 h1
  text "8" at 7.28,1.6 h1
  text "12" at 27.2,1.6 h1
  text "11" at 22.12,1.6 h1
  text "9" at 12.36,1.6 h1
  text "10" at 17.04,1.6 h1
Mechanical 8:
  lines w0.1: -28.44,0 -27.94,0 ; -27.94,-0.5 -27.94,0 ; -27.94,0.5 -27.94,0 ; -27.44,0 -27.94,0 ; -23.36,0 -22.86,0 ; -22.86,-0.5 -22.86,0 ; -22.86,0.5 -22.86,0 ; -22.36,0 -22.86,0 ; -18.28,0 -17.78,0 ; -17.78,-0.5 -17.78,0 ; -17.78,0.5 -17.78,0 ; -17.28,0 -17.78,0 ; 2.04,0 2.54,0 ; 2.54,-0.5 2.54,0 ; 2.54,0.5 2.54,0 ; 3.04,0 2.54,0 ; 7.12,0 7.62,0 ; 7.62,-0.5 7.62,0 ; 7.62,0.5 7.62,0 ; 8.12,0 7.62,0 ; 12.2,0 12.7,0 ; 12.7,-0.5 12.7,0 ; 12.7,0.5 12.7,0 ; 13.2,0 12.7,0 ; 17.28,0 17.78,0 ; 17.78,-0.5 17.78,0 ; 17.78,0.5 17.78,0 ; 18.28,0 17.78,0 ; 22.36,0 22.86,0 ; 22.86,-0.5 22.86,0 ; 22.86,0.5 22.86,0 ; 23.36,0 22.86,0 ; 27.44,0 27.94,0 ; 27.94,-0.5 27.94,0 ; 27.94,0.5 27.94,0 ; 28.44,0 27.94,0 ; -12.7,0 -13.2,0 -12.7,0 ; -12.7,0 -12.7,-0.5 -12.7,0 ; -12.7,0 -12.2,0 -12.7,0 ; -12.7,0 -12.7,0.5 -12.7,0 ; -8.12,0 -7.62,0 ; -8.12,0 -7.62,0 ; -8.12,0 -7.62,0 ; -8.12,0 -7.62,0 ; -7.62,-0.5 -7.62,0 ; -7.62,-0.5 -7.62,0 ; -7.62,-0.5 -7.62,0 ; -7.62,-0.5 -7.62,0 ; -7.62,0 -7.12,0 ; -7.62,0 -7.62,0.5 ; -7.62,0 -7.12,0 ; -7.62,0 -7.62,0.5 ; -7.62,0 -7.12,0 ; -7.62,0 -7.62,0.5 ; -7.62,0 -7.12,0 ; -7.62,0 -7.62,0.5 ; -2.54,0 -3.04,0 -2.54,0 ; -2.54,0 -2.54,-0.5 -2.54,0 ; -2.54,0 -2.04,0 -2.54,0 ; -2.54,0 -2.54,0.5 -2.54,0 ; -0.5,0 0,0 ; -0.5,0 0,0 ; -0.5,0 0,0 ; -0.5,0 0,0 ; 0,-0.5 0,0 ; 0,-0.5 0,0 ; 0,-0.5 0,0 ; 0,-0.5 0,0 ; 0,0 0.5,0 ; 0,0 0,0.5 ; 0,0 0.5,0 ; 0,0 0,0.5 ; 0,0 0.5,0 ; 0,0 0,0.5 ; 0,0 0.5,0 ; 0,0 0,0.5
Mechanical 14:
  drawing of 210 lines, arcs and shapes, not listed
  text "6" at -2.88,1.6 h1
  text "5" at -7.96,1.6 h1
  text "4" at -13.04,1.6 h1
  text "1" at -28.075,1.6 h1
  text "2" at -23.2,1.6 h1
  text "3" at -18.12,1.6 h1
  text "7" at 2.2,1.6 h1
  text "8" at 7.28,1.6 h1
  text "12" at 27.2,1.6 h1
  text "11" at 22.12,1.6 h1
  text "9" at 12.36,1.6 h1
  text "10" at 17.04,1.6 h1
3D body: height 12, standoff -3.2, extent -30.38,-3.8 30.38,4.63

## WEIDMULLER_1146630000 [mm] "24A 400 V, Pitch 5.08mm, 18 Positions PCB Male Header, Type SL 5.08HC Serie"
height 12
pads (18):
  round 2.1 hole 1.4: 1(-43.18,0) 2(-38.1,0) 3(-33.02,0) 4(-27.94,0) 5(-22.86,0) 6(-17.78,0) 7(-12.7,0) 8(-7.62,0) 9(-2.54,0) 10(2.54,0) 11(7.62,0) 12(12.7,0) 13(17.78,0) 14(22.86,0) 15(27.94,0) 16(33.02,0) 17(38.1,0) 18(43.18,0)
Top Overlay:
  drawing of 168 lines, arcs and shapes, not listed
  text "10" at 1.8,1.6 h1
  text "9" at -2.88,1.6 h1
  text "11" at 6.88,1.6 h1
  text "12" at 11.96,1.6 h1
  text "8" at -7.96,1.6 h1
  text "7" at -13.04,1.6 h1
  text "3" at -33.36,1.6 h1
  text "1" at -43.315,1.6 h1
  text "2" at -38.44,1.6 h1
  text "4" at -28.28,1.6 h1
  text "5" at -23.2,1.6 h1
  text "6" at -18.12,1.6 h1
  text "13" at 17.065,1.6 h1
  text "14" at 22.145,1.6 h1
  text "18" at 42.44,1.6 h1
  text "17" at 37.36,1.6 h1
  text "15" at 27.225,1.6 h1
  text "16" at 32.28,1.6 h1
Mechanical 8:
  lines w0.1: -43.68,0 -43.18,0 ; -43.18,-0.5 -43.18,0 ; -43.18,0.5 -43.18,0 ; -42.68,0 -43.18,0 ; -38.6,0 -38.1,0 ; -38.1,-0.5 -38.1,0 ; -38.1,0.5 -38.1,0 ; -37.6,0 -38.1,0 ; -33.52,0 -33.02,0 ; -33.02,-0.5 -33.02,0 ; -33.02,0.5 -33.02,0 ; -32.52,0 -33.02,0 ; -28.44,0 -27.94,0 ; -27.94,-0.5 -27.94,0 ; -27.94,0.5 -27.94,0 ; -27.44,0 -27.94,0 ; -23.36,0 -22.86,0 ; -22.86,-0.5 -22.86,0 ; -22.86,0.5 -22.86,0 ; -22.36,0 -22.86,0 ; -18.28,0 -17.78,0 ; -17.78,-0.5 -17.78,0 ; -17.78,0.5 -17.78,0 ; -17.28,0 -17.78,0 ; 2.04,0 2.54,0 ; 2.54,-0.5 2.54,0 ; 2.54,0.5 2.54,0 ; 3.04,0 2.54,0 ; 7.12,0 7.62,0 ; 7.62,-0.5 7.62,0 ; 7.62,0.5 7.62,0 ; 8.12,0 7.62,0 ; 12.2,0 12.7,0 ; 12.7,-0.5 12.7,0 ; 12.7,0.5 12.7,0 ; 13.2,0 12.7,0 ; 17.28,0 17.78,0 ; 17.78,-0.5 17.78,0 ; 17.78,0.5 17.78,0 ; 18.28,0 17.78,0 ; 22.36,0 22.86,0 ; 22.86,-0.5 22.86,0 ; 22.86,0.5 22.86,0 ; 23.36,0 22.86,0 ; 27.44,0 27.94,0 ; 27.94,-0.5 27.94,0 ; 27.94,0.5 27.94,0 ; 28.44,0 27.94,0 ; 32.52,0 33.02,0 ; 33.02,-0.5 33.02,0 ; 33.02,0.5 33.02,0 ; 33.52,0 33.02,0 ; 37.6,0 38.1,0 ; 38.1,-0.5 38.1,0 ; 38.1,0.5 38.1,0 ; 38.6,0 38.1,0 ; 42.68,0 43.18,0 ; 43.18,-0.5 43.18,0 ; 43.18,0.5 43.18,0 ; 43.68,0 43.18,0 ; -12.7,0 -12.7,0.5 -12.7,0 ; -12.7,0 -12.2,0 -12.7,0 ; -12.7,0 -12.7,-0.5 -12.7,0 ; -12.7,0 -13.2,0 -12.7,0 ; -8.12,0 -7.62,0 ; -8.12,0 -7.62,0 ; -8.12,0 -7.62,0 ; -8.12,0 -7.62,0 ; -7.62,-0.5 -7.62,0 ; -7.62,-0.5 -7.62,0 ; -7.62,-0.5 -7.62,0 ; -7.62,-0.5 -7.62,0 ; -7.62,0 -7.62,0.5 ; -7.62,0 -7.12,0 ; -7.62,0 -7.62,0.5 ; -7.62,0 -7.12,0 ; -7.62,0 -7.62,0.5 ; -7.62,0 -7.12,0 ; -7.62,0 -7.62,0.5 ; -7.62,0 -7.12,0 ; -2.54,0 -2.54,0.5 -2.54,0 ; -2.54,0 -2.04,0 -2.54,0 ; -2.54,0 -2.54,-0.5 -2.54,0 ; -2.54,0 -3.04,0 -2.54,0 ; -0.5,0 0,0 ; -0.5,0 0,0 ; -0.5,0 0,0 ; -0.5,0 0,0 ; 0,-0.5 0,0 ; 0,-0.5 0,0 ; 0,-0.5 0,0 ; 0,-0.5 0,0 ; 0,0 0,0.5 ; 0,0 0.5,0 ; 0,0 0,0.5 ; 0,0 0.5,0 ; 0,0 0,0.5 ; 0,0 0.5,0 ; 0,0 0,0.5 ; 0,0 0.5,0
Mechanical 14:
  drawing of 312 lines, arcs and shapes, not listed
  text "10" at 1.8,1.6 h1
  text "9" at -2.88,1.6 h1
  text "11" at 6.88,1.6 h1
  text "12" at 11.96,1.6 h1
  text "8" at -7.96,1.6 h1
  text "7" at -13.04,1.6 h1
  text "3" at -33.36,1.6 h1
  text "2" at -38.44,1.6 h1
  text "1" at -43.315,1.6 h1
  text "4" at -28.28,1.6 h1
  text "5" at -23.2,1.6 h1
  text "6" at -18.12,1.6 h1
  text "13" at 17.065,1.6 h1
  text "14" at 22.145,1.6 h1
  text "18" at 42.44,1.6 h1
  text "17" at 37.36,1.6 h1
  text "15" at 27.225,1.6 h1
  text "16" at 32.28,1.6 h1
3D body: height 12, standoff -3.2, extent -45.62,-3.8 45.62,4.63

## WEIDMULLER_1146740000 [mm] "15A 300 V, Pitch 5.08mm, 3 Positions PCB Right Angle Male Header, BL/SL 5.08 serie"
height 8.5
pads (3):
  round 2.1 hole 1.4: 1(-5.08,0) 2(0,0) 3(5.08,0)
Top Overlay:
  lines w0.2: -7.52,-7.15 7.52,-7.15 ; -7.52,-6.83 7.52,-6.83 ; -7.52,-4.68 7.52,-4.68 ; -7.52,-3.93 7.52,-3.93 ; -6.25,-6.83 -6.25,-5.8 -3.91,-5.8 -3.91,-6.83 ; -6,-6.83 -6,-5.8 ; -5.58,-6.83 -5.58,-5.8 ; -4.58,-6.83 -4.58,-5.8 ; -4.16,-6.83 -4.16,-5.8 ; -1.17,-6.83 -1.17,-5.8 1.17,-5.8 1.17,-6.83 ; -0.92,-6.83 -0.92,-5.8 ; -0.5,-6.83 -0.5,-5.8 ; 0.5,-6.83 0.5,-5.8 ; 0.92,-6.83 0.92,-5.8 ; 3.91,-6.83 3.91,-5.8 6.25,-5.8 6.25,-6.83 ; 4.16,-6.83 4.16,-5.8 ; 4.58,-6.83 4.58,-5.8 ; 5.58,-6.83 5.58,-5.8 ; 6,-6.83 6,-5.8 ; -7.52,-9.95 -7.52,2.05 7.52,2.05 7.52,-9.95 -7.52,-9.95
  text "1" at -5.35,2.625 h1
Mechanical 8:
  lines w0.1: -5.58,0 -5.08,0 ; -5.08,-0.5 -5.08,0 ; -5.08,0.5 -5.08,0 ; -4.58,0 -5.08,0 ; -0.5,0 0,0 ; 0,-0.5 0,0 ; 0,0.5 0,0 ; 0.5,0 0,0 ; 4.58,0 5.08,0 ; 5.08,-0.5 5.08,0 ; 5.08,0.5 5.08,0 ; 5.58,0 5.08,0
Mechanical 14:
  lines w0.1: -7.52,-7.15 7.52,-7.15 ; -7.52,-6.83 7.52,-6.83 ; -7.52,-4.68 7.52,-4.68 ; -7.52,-3.93 7.52,-3.93 ; -6.25,-6.83 -6.25,-5.8 -3.91,-5.8 -3.91,-6.83 ; -6,-6.83 -6,-5.8 ; -5.58,-6.83 -5.58,-5.8 ; -4.58,-6.83 -4.58,-5.8 ; -4.16,-6.83 -4.16,-5.8 ; -1.17,-6.83 -1.17,-5.8 1.17,-5.8 1.17,-6.83 ; -0.92,-6.83 -0.92,-5.8 ; -0.5,-6.83 -0.5,-5.8 ; 0.5,-6.83 0.5,-5.8 ; 0.92,-6.83 0.92,-5.8 ; 3.91,-6.83 3.91,-5.8 6.25,-5.8 6.25,-6.83 ; 4.16,-6.83 4.16,-5.8 ; 4.58,-6.83 4.58,-5.8 ; 5.58,-6.83 5.58,-5.8 ; 6,-6.83 6,-5.8 ; -7.52,-9.95 -7.52,2.05 7.52,2.05 7.52,-9.95 -7.52,-9.95
  text "3" at 4.74,-2.65 h1
  text "2" at -0.34,-2.65 h1
  text "1" at -5.42,-2.65 h1
3D body: height 8.43, standoff -3.2, extent -7.52,-9.95 7.52,2.05

## WEIDMULLER_1234600000 [mm] "Terminal Block, 24A 600V, Pitch 5.08mm, 8 Positions, Screw Connection"
height 10
pads (8):
  round 2 hole 1.3: 1(-17.78,0) 2(-12.7,0) 3(-7.62,0) 4(-2.54,0) 5(2.54,0) 6(7.62,0) 7(12.7,0) 8(17.78,0)
Top Overlay:
  circle w0.2: c17.78,0.577 r2
  circle w0.2: c12.7,0.577 r2
  circle w0.2: c7.62,0.577 r2
  circle w0.2: c2.54,0.577 r2
  circle w0.2: c-2.54,0.577 r2
  circle w0.2: c-7.62,0.577 r2
  circle w0.2: c-17.78,0.577 r2
  circle w0.2: c-12.7,0.577 r2
  lines w0.2: -20.32,-3.25 -18.88,-3.25 ; -20.32,-2.25 -18.88,-2.25 ; -20.32,2.75 20.32,2.75 ; -20.32,2.95 -20.42,2.95 -20.62,2.75 -20.82,2.75 -20.82,3.75 -20.62,3.75 -20.42,3.55 -20.32,3.55 ; -19.43,1.52 -18.833,0.923 ; -18.723,2.227 -17.891,1.396 ; -16.857,-1.053 -16.837,-1.073 ; -16.68,-3.25 -13.8,-3.25 ; -16.68,-2.25 -13.8,-2.25 ; -16.384,-0.111 -16.13,-0.366 ; -14.35,1.52 -13.753,0.923 ; -13.643,2.227 -12.811,1.396 ; -11.777,-1.053 -11.757,-1.073 ; -11.6,-3.25 -8.72,-3.25 ; -11.6,-2.25 -8.72,-2.25 ; -11.304,-0.111 -11.05,-0.366 ; -9.27,1.52 -8.673,0.923 ; -8.563,2.227 -7.731,1.396 ; -6.697,-1.053 -6.677,-1.073 ; -6.52,-3.25 -3.64,-3.25 ; -6.52,-2.25 -3.64,-2.25 ; -6.224,-0.111 -5.97,-0.366 ; -4.19,1.52 -3.593,0.923 ; -3.483,2.227 -2.651,1.396 ; -1.617,-1.053 -1.597,-1.073 ; -1.44,-3.25 1.44,-3.25 ; -1.44,-2.25 1.44,-2.25 ; -1.144,-0.111 -0.89,-0.366 ; 0.89,1.52 1.487,0.923 ; 1.597,2.227 2.429,1.396 ; 3.463,-1.053 3.483,-1.073 ; 3.64,-3.25 6.52,-3.25 ; 3.64,-2.25 6.52,-2.25 ; 3.936,-0.111 4.19,-0.366 ; 5.97,1.52 6.567,0.923 ; 6.677,2.227 7.509,1.396 ; 8.543,-1.053 8.563,-1.073 ; 8.72,-3.25 11.6,-3.25 ; 8.72,-2.25 11.6,-2.25 ; 9.016,-0.111 9.27,-0.366 ; 11.05,1.52 11.647,0.923 ; 11.757,2.227 12.589,1.396 ; 13.623,-1.053 13.643,-1.073 ; 13.8,-3.25 16.68,-3.25 ; 13.8,-2.25 16.68,-2.25 ; 14.096,-0.111 14.35,-0.366 ; 16.13,1.52 16.727,0.923 ; 16.837,2.227 17.669,1.396 ; 18.703,-1.053 18.723,-1.073 ; 18.88,-3.25 20.32,-3.25 ; 18.88,-2.25 20.32,-2.25 ; 19.176,-0.111 19.43,-0.366 ; 20.32,-1.55 20.37,-1.55 20.57,-1.75 20.77,-1.75 20.77,-0.75 20.57,-0.75 20.37,-0.95 20.32,-0.95 ; -20.32,-3.75 -20.32,4.25 20.32,4.25 20.32,-3.75 -20.32,-3.75
  text "8" at 17.453,-3.2 h1
  text "7" at 12.373,-3.2 h1
  text "6" at 7.293,-3.2 h1
  text "5" at 2.213,-3.2 h1
  text "4" at -2.867,-3.2 h1
  text "3" at -7.947,-3.2 h1
  text "2" at -13.027,-3.2 h1
  text "1" at -18.032,-3.2 h1
Mechanical 8:
  lines w0.1: -18.28,0 -17.78,0 ; -17.78,-0.5 -17.78,0 ; -17.78,0.5 -17.78,0 ; -17.28,0 -17.78,0 ; -15.74,0 -15.24,0 ; -15.24,-0.5 -15.24,0 ; -15.24,0.5 -15.24,0 ; -14.74,0 -15.24,0 ; -13.2,0 -12.7,0 ; -12.7,-0.5 -12.7,0 ; -12.7,0.5 -12.7,0 ; -12.2,0 -12.7,0 ; -8.12,0 -7.62,0 ; -7.62,-0.5 -7.62,0 ; -7.62,0.5 -7.62,0 ; -7.12,0 -7.62,0 ; -3.04,0 -2.54,0 ; -2.54,-0.5 -2.54,0 ; -2.54,0.5 -2.54,0 ; -2.04,0 -2.54,0 ; -0.5,0 0,0 ; 0,-0.5 0,0 ; 0,0.5 0,0 ; 0.5,0 0,0 ; 2.04,0 2.54,0 ; 2.54,-0.5 2.54,0 ; 2.54,0.5 2.54,0 ; 3.04,0 2.54,0 ; 7.12,0 7.62,0 ; 7.62,-0.5 7.62,0 ; 7.62,0.5 7.62,0 ; 8.12,0 7.62,0 ; 12.2,0 12.7,0 ; 12.7,-0.5 12.7,0 ; 12.7,0.5 12.7,0 ; 13.2,0 12.7,0 ; 17.28,0 17.78,0 ; 17.78,-0.5 17.78,0 ; 17.78,0.5 17.78,0 ; 18.28,0 17.78,0
Mechanical 14:
  circle w0.1: c17.78,0.577 r1.9
  circle w0.1: c17.78,0.577 r2
  circle w0.1: c12.7,0.577 r1.9
  circle w0.1: c12.7,0.577 r2
  circle w0.1: c7.62,0.577 r1.9
  circle w0.1: c7.62,0.577 r2
  circle w0.1: c2.54,0.577 r1.9
  circle w0.1: c2.54,0.577 r2
  circle w0.1: c-2.54,0.577 r1.9
  circle w0.1: c-2.54,0.577 r2
  circle w0.1: c-7.62,0.577 r1.9
  circle w0.1: c-7.62,0.577 r2
  circle w0.1: c-17.78,0.577 r1.9
  circle w0.1: c-17.78,0.577 r2
  circle w0.1: c-12.7,0.577 r1.9
  circle w0.1: c-12.7,0.577 r2
  lines w0.1: -20.32,-3.25 20.32,-3.25 ; -20.32,-2.25 20.32,-2.25 ; -20.32,2.75 20.32,2.75 ; -20.32,2.95 -20.42,2.95 -20.62,2.75 -20.82,2.75 -20.82,3.75 -20.62,3.75 -20.42,3.55 -20.32,3.55 ; -19.43,1.52 -16.837,-1.073 ; -18.723,2.227 -16.13,-0.366 ; -14.35,1.52 -11.757,-1.073 ; -13.643,2.227 -11.05,-0.366 ; -9.27,1.52 -6.677,-1.073 ; -8.563,2.227 -5.97,-0.366 ; -4.19,1.52 -1.597,-1.073 ; -3.483,2.227 -0.89,-0.366 ; 0.89,1.52 3.483,-1.073 ; 1.597,2.227 4.19,-0.366 ; 5.97,1.52 8.563,-1.073 ; 6.677,2.227 9.27,-0.366 ; 11.05,1.52 13.643,-1.073 ; 11.757,2.227 14.35,-0.366 ; 16.13,1.52 18.723,-1.073 ; 16.837,2.227 19.43,-0.366 ; 20.32,-1.55 20.37,-1.55 20.57,-1.75 20.77,-1.75 20.77,-0.75 20.57,-0.75 20.37,-0.95 20.32,-0.95 ; -20.32,-3.75 -20.32,4.25 20.32,4.25 20.32,-3.75 -20.32,-3.75
  text "8" at 17.453,-3.2 h1
  text "7" at 12.373,-3.2 h1
  text "6" at 7.293,-3.2 h1
  text "5" at 2.213,-3.2 h1
  text "4" at -2.867,-3.2 h1
  text "3" at -7.947,-3.2 h1
  text "2" at -13.027,-3.2 h1
  text "1" at -18.032,-3.2 h1
3D body: height 10, standoff -3.5, extent -20.995,-3.775 20.595,4.225

## WEIDMULLER_1604490000 [mm] "17A 320 V, Pitch 3.5mm, 4 Positions PCB Male Header, Type SL 3.5 Serie"
height 11.1
pads (4):
  round 2.1 hole 1.4: 1(-5.25,0) 2(-1.75,0) 3(1.75,0) 4(5.25,0)
Top Overlay:
  drawing of 183 lines, arcs and shapes, not listed
  text "1" at -5.388,1.675 h1
Mechanical 8:
  lines w0.1: -5.75,0 -5.25,0 ; -5.25,-0.5 -5.25,0 ; -5.25,0.5 -5.25,0 ; -4.75,0 -5.25,0 ; -2.25,0 -1.75,0 ; -1.75,-0.5 -1.75,0 ; -1.75,0.5 -1.75,0 ; -1.25,0 -1.75,0 ; -0.5,0 0,0 ; 0,-0.5 0,0 ; 0,0.5 0,0 ; 0.5,0 0,0 ; 1.25,0 1.75,0 ; 1.75,-0.5 1.75,0 ; 1.75,0.5 1.75,0 ; 2.25,0 1.75,0 ; 4.75,0 5.25,0 ; 5.25,-0.5 5.25,0 ; 5.25,0.5 5.25,0 ; 5.75,0 5.25,0
Mechanical 14:
  drawing of 215 lines, arcs and shapes, not listed
  text "1" at -5.388,1.675 h1
3D body: height 11.05, standoff -3.2, extent -7.7,-3.5 7.7,3.95

## WEIDMULLER_1605070000 [mm] "10A 300 V, Pitch 3.5mm, 2 Positions PCB Right Angle Header, BL/SL 3.50 Serie"
height 7.5
pads (2):
  round 2 hole 1.3: 1(-1.75,0) 2(1.75,0)
Top Overlay:
  lines w0.2: -2.778,0.95 -4.2,0.95 -4.2,-10.1 4.2,-10.1 4.2,0.95 2.778,0.95 ; -2.559,-9.551 -2.55,-9.084 ; -2.535,-9.572 cw(c-1.758,-10.206) -0.982,-9.572 ; -2.518,-10.1 -2.508,-9.616 ; -2.496,-9.023 -2.416,-5.05 -1.084,-5.05 -1.004,-9.023 ; -2.375,-1.253 -2.375,-1.45 -1.125,-1.45 -1.125,-1.253 ; -2.36,-10.1 -2.36,-9.783 ccw(c-2.485,-9.783) -2.431,-9.67 cw(c-2.3,-9.4) -2.6,-9.4 -2.6,-9.25 cw(c-2.3,-9.25) -2.3,-8.95 -2.247,-8.95 -2.179,-5.05 ; -2.25,-8.9 -1.254,-8.9 ; -1.321,-5.05 -1.253,-8.95 -1.2,-8.95 cw(c-1.2,-9.25) -0.9,-9.25 -0.9,-9.4 cw(c-1.2,-9.4) -1.069,-9.67 ccw(c-1.015,-9.783) -1.14,-9.783 -1.14,-10.1 ; -0.992,-9.616 -0.983,-10.1 ; -0.95,-9.084 -0.941,-9.551 ; -0.722,0.95 0.722,0.95 ; 0.941,-9.551 0.95,-9.084 ; 0.965,-9.572 cw(c1.742,-10.206) 2.518,-9.572 ; 0.983,-10.1 0.992,-9.616 ; 1.004,-9.023 1.084,-5.05 2.416,-5.05 2.496,-9.023 ; 1.125,-1.253 1.125,-1.45 2.375,-1.45 2.375,-1.253 ; 1.14,-10.1 1.14,-9.783 ccw(c1.015,-9.783) 1.069,-9.67 cw(c1.2,-9.4) 0.9,-9.4 0.9,-9.25 cw(c1.2,-9.25) 1.2,-8.95 1.253,-8.95 1.321,-5.05 ; 1.25,-8.9 2.246,-8.9 ; 2.179,-5.05 2.247,-8.95 2.3,-8.95 cw(c2.3,-9.25) 2.6,-9.25 2.6,-9.4 cw(c2.3,-9.4) 2.431,-9.67 ccw(c2.485,-9.783) 2.36,-9.783 2.36,-10.1 ; 2.508,-9.616 2.518,-10.1 ; 2.55,-9.084 2.559,-9.551
  text "2" at 1.385,-3.375 h1.2
  text "1" at -1.99,-3.375 h1.2
Mechanical 8:
  lines w0.1: -2.25,0 -1.75,0 ; -1.75,-0.5 -1.75,0 ; -1.75,0.5 -1.75,0 ; -1.25,0 -1.75,0 ; -0.5,0 0,0 ; 0,-0.5 0,0 ; 0,0.5 0,0 ; 0.5,0 0,0 ; 1.25,0 1.75,0 ; 1.75,-0.5 1.75,0 ; 1.75,0.5 1.75,0 ; 2.25,0 1.75,0
Mechanical 14:
  lines w0.1: -2.559,-9.551 -2.55,-9.084 ; -2.535,-9.572 cw(c-1.758,-10.206) -0.982,-9.572 ; -2.518,-10.1 -2.508,-9.616 ; -2.496,-9.023 -2.416,-5.05 -1.084,-5.05 -1.004,-9.023 ; -2.375,0.95 -2.375,-1.45 -1.125,-1.45 -1.125,0.95 ; -2.36,-10.1 -2.36,-9.783 ccw(c-2.485,-9.783) -2.431,-9.67 cw(c-2.3,-9.4) -2.6,-9.4 -2.6,-9.25 cw(c-2.3,-9.25) -2.3,-8.95 -2.247,-8.95 -2.179,-5.05 ; -2.25,-8.9 -1.254,-8.9 ; -1.321,-5.05 -1.253,-8.95 -1.2,-8.95 cw(c-1.2,-9.25) -0.9,-9.25 -0.9,-9.4 cw(c-1.2,-9.4) -1.069,-9.67 ccw(c-1.015,-9.783) -1.14,-9.783 -1.14,-10.1 ; -0.992,-9.616 -0.983,-10.1 ; -0.95,-9.084 -0.941,-9.551 ; 0.941,-9.551 0.95,-9.084 ; 0.965,-9.572 cw(c1.742,-10.206) 2.518,-9.572 ; 0.983,-10.1 0.992,-9.616 ; 1.004,-9.023 1.084,-5.05 2.416,-5.05 2.496,-9.023 ; 1.125,0.95 1.125,-1.45 2.375,-1.45 2.375,0.95 ; 1.14,-10.1 1.14,-9.783 ccw(c1.015,-9.783) 1.069,-9.67 cw(c1.2,-9.4) 0.9,-9.4 0.9,-9.25 cw(c1.2,-9.25) 1.2,-8.95 1.253,-8.95 1.321,-5.05 ; 1.25,-8.9 2.246,-8.9 ; 2.179,-5.05 2.247,-8.95 2.3,-8.95 cw(c2.3,-9.25) 2.6,-9.25 2.6,-9.4 cw(c2.3,-9.4) 2.431,-9.67 ccw(c2.485,-9.783) 2.36,-9.783 2.36,-10.1 ; 2.508,-9.616 2.518,-10.1 ; 2.55,-9.084 2.559,-9.551 ; -4.2,-10.1 4.2,-10.1 4.2,0.95 -4.2,0.95 -4.2,-10.1
  text "1" at -1.99,-3.375 h1.2
  text "2" at 1.385,-3.375 h1.2
3D body: height 7.45, standoff -3.2, extent -4.2,-10.1 4.2,0.95

## WEIDMULLER_1605080000 [mm] "10A 300 V, Pitch 3.5mm, 3 Positions PCB Right Angle Header, BL/SL 3.50 Serie"
height 7.5
pads (3):
  round 2 hole 1.3: 1(-3.5,0) 2(0,0) 3(3.5,0)
Top Overlay:
  lines w0.2: -4.528,0.95 -5.95,0.95 -5.95,-10.1 5.95,-10.1 5.95,0.95 4.528,0.95 ; -4.309,-9.551 -4.3,-9.084 ; -4.285,-9.572 cw(c-3.508,-10.206) -2.732,-9.572 ; -4.267,-10.1 -4.258,-9.616 ; -4.246,-9.023 -4.166,-5.05 -2.834,-5.05 -2.754,-9.023 ; -4.125,-1.253 -4.125,-1.45 -2.875,-1.45 -2.875,-1.253 ; -4.11,-10.1 -4.11,-9.783 ccw(c-4.235,-9.783) -4.181,-9.67 cw(c-4.05,-9.4) -4.35,-9.4 -4.35,-9.25 cw(c-4.05,-9.25) -4.05,-8.95 -3.997,-8.95 -3.929,-5.05 ; -4,-8.9 -3.004,-8.9 ; -3.071,-5.05 -3.003,-8.95 -2.95,-8.95 cw(c-2.95,-9.25) -2.65,-9.25 -2.65,-9.4 cw(c-2.95,-9.4) -2.819,-9.67 ccw(c-2.765,-9.783) -2.89,-9.783 -2.89,-10.1 ; -2.742,-9.616 -2.732,-10.1 ; -2.7,-9.084 -2.691,-9.551 ; -2.472,0.95 -1.028,0.95 ; -0.809,-9.551 -0.8,-9.084 ; -0.785,-9.572 cw(c-0.008,-10.206) 0.768,-9.572 ; -0.767,-10.1 -0.758,-9.616 ; -0.746,-9.023 -0.666,-5.05 0.666,-5.05 0.746,-9.023 ; -0.625,-1.253 -0.625,-1.45 0.625,-1.45 0.625,-1.253 ; -0.61,-10.1 -0.61,-9.783 ccw(c-0.735,-9.783) -0.681,-9.67 cw(c-0.55,-9.4) -0.85,-9.4 -0.85,-9.25 cw(c-0.55,-9.25) -0.55,-8.95 -0.497,-8.95 -0.429,-5.05 ; -0.5,-8.9 0.496,-8.9 ; 0.429,-5.05 0.497,-8.95 0.55,-8.95 cw(c0.55,-9.25) 0.85,-9.25 0.85,-9.4 cw(c0.55,-9.4) 0.681,-9.67 ccw(c0.735,-9.783) 0.61,-9.783 0.61,-10.1 ; 0.758,-9.616 0.768,-10.1 ; 0.8,-9.084 0.809,-9.551 ; 1.028,0.95 2.472,0.95 ; 2.691,-9.551 2.7,-9.084 ; 2.715,-9.572 cw(c3.492,-10.206) 4.268,-9.572 ; 2.733,-10.1 2.742,-9.616 ; 2.754,-9.023 2.834,-5.05 4.166,-5.05 4.246,-9.023 ; 2.875,-1.253 2.875,-1.45 4.125,-1.45 4.125,-1.253 ; 2.89,-10.1 2.89,-9.783 ccw(c2.765,-9.783) 2.819,-9.67 cw(c2.95,-9.4) 2.65,-9.4 2.65,-9.25 cw(c2.95,-9.25) 2.95,-8.95 3.003,-8.95 3.071,-5.05 ; 3,-8.9 3.996,-8.9 ; 3.929,-5.05 3.997,-8.95 4.05,-8.95 cw(c4.05,-9.25) 4.35,-9.25 4.35,-9.4 cw(c4.05,-9.4) 4.181,-9.67 ccw(c4.235,-9.783) 4.11,-9.783 4.11,-10.1 ; 4.258,-9.616 4.268,-10.1 ; 4.3,-9.084 4.309,-9.551
  text "2" at -0.365,-3.375 h1.2
  text "1" at -3.74,-3.375 h1.2
  text "3" at 3.135,-3.375 h1.2
Mechanical 8:
  lines w0.1: -4,0 -3.5,0 ; -3.5,-0.5 -3.5,0 ; -3.5,0.5 -3.5,0 ; -3,0 -3.5,0 ; -0.5,0 0,0 ; 0,-0.5 0,0 ; 0,0.5 0,0 ; 0.5,0 0,0 ; 3,0 3.5,0 ; 3.5,-0.5 3.5,0 ; 3.5,0.5 3.5,0 ; 4,0 3.5,0
Mechanical 14:
  lines w0.1: -4.309,-9.551 -4.3,-9.084 ; -4.285,-9.572 cw(c-3.508,-10.206) -2.732,-9.572 ; -4.267,-10.1 -4.258,-9.616 ; -4.246,-9.023 -4.166,-5.05 -2.834,-5.05 -2.754,-9.023 ; -4.125,0.95 -4.125,-1.45 -2.875,-1.45 -2.875,0.95 ; -4.11,-10.1 -4.11,-9.783 ccw(c-4.235,-9.783) -4.181,-9.67 cw(c-4.05,-9.4) -4.35,-9.4 -4.35,-9.25 cw(c-4.05,-9.25) -4.05,-8.95 -3.997,-8.95 -3.929,-5.05 ; -4,-8.9 -3.004,-8.9 ; -3.071,-5.05 -3.003,-8.95 -2.95,-8.95 cw(c-2.95,-9.25) -2.65,-9.25 -2.65,-9.4 cw(c-2.95,-9.4) -2.819,-9.67 ccw(c-2.765,-9.783) -2.89,-9.783 -2.89,-10.1 ; -2.742,-9.616 -2.732,-10.1 ; -2.7,-9.084 -2.691,-9.551 ; -0.809,-9.551 -0.8,-9.084 ; -0.785,-9.572 cw(c-0.008,-10.206) 0.768,-9.572 ; -0.767,-10.1 -0.758,-9.616 ; -0.746,-9.023 -0.666,-5.05 0.666,-5.05 0.746,-9.023 ; -0.625,0.95 -0.625,-1.45 0.625,-1.45 0.625,0.95 ; -0.61,-10.1 -0.61,-9.783 ccw(c-0.735,-9.783) -0.681,-9.67 cw(c-0.55,-9.4) -0.85,-9.4 -0.85,-9.25 cw(c-0.55,-9.25) -0.55,-8.95 -0.497,-8.95 -0.429,-5.05 ; -0.5,-8.9 0.496,-8.9 ; 0.429,-5.05 0.497,-8.95 0.55,-8.95 cw(c0.55,-9.25) 0.85,-9.25 0.85,-9.4 cw(c0.55,-9.4) 0.681,-9.67 ccw(c0.735,-9.783) 0.61,-9.783 0.61,-10.1 ; 0.758,-9.616 0.768,-10.1 ; 0.8,-9.084 0.809,-9.551 ; 2.691,-9.551 2.7,-9.084 ; 2.715,-9.572 cw(c3.492,-10.206) 4.268,-9.572 ; 2.733,-10.1 2.742,-9.616 ; 2.754,-9.023 2.834,-5.05 4.166,-5.05 4.246,-9.023 ; 2.875,0.95 2.875,-1.45 4.125,-1.45 4.125,0.95 ; 2.89,-10.1 2.89,-9.783 ccw(c2.765,-9.783) 2.819,-9.67 cw(c2.95,-9.4) 2.65,-9.4 2.65,-9.25 cw(c2.95,-9.25) 2.95,-8.95 3.003,-8.95 3.071,-5.05 ; 3,-8.9 3.996,-8.9 ; 3.929,-5.05 3.997,-8.95 4.05,-8.95 cw(c4.05,-9.25) 4.35,-9.25 4.35,-9.4 cw(c4.05,-9.4) 4.181,-9.67 ccw(c4.235,-9.783) 4.11,-9.783 4.11,-10.1 ; 4.258,-9.616 4.268,-10.1 ; 4.3,-9.084 4.309,-9.551 ; -5.95,-10.1 -5.95,0.95 5.95,0.95 5.95,-10.1 -5.95,-10.1
  text "1" at -3.74,-3.375 h1.2
  text "2" at -0.365,-3.375 h1.2
  text "3" at 3.135,-3.375 h1.2
3D body: height 7.45, standoff -3.2, extent -5.95,-10.1 5.95,0.95

## WEIDMULLER_1622960000 [mm] "23A 400 V, Pitch 5.08mm, 4 Positions PCB Female Header, BL/SL 5.08 series"
height 10.3
pads (8):
  round 2.1 hole 1.4: 1(-7.62,-2.54) 1(-7.62,2.54) 2(-2.54,-2.54) 2(-2.54,2.54) 3(2.54,-2.54) 3(2.54,2.54) 4(7.62,-2.54) 4(7.62,2.54)
Top Overlay:
  lines w0.2: -10.16,7.84 -6.58,7.84 ; -5.08,7.84 5.08,7.84 ; 6.58,7.84 10.16,7.84 ; 6.58,12.073 5.08,12.073 5.08,3.74 6.58,3.74 6.58,12.08 ; -10.16,-4.06 10.16,-4.06 10.16,16.19 -10.16,16.19 -10.16,-4.06 ; -6.58,3.74 -5.08,3.74 -5.08,12.073 -6.58,12.073 -6.58,3.74
  text "1" at -7.872,-0.66 h1.2
  text "2" at -2.867,-0.66 h1.2
  text "3" at 2.213,-0.66 h1.2
  text "4" at 7.293,-0.66 h1.2
Mechanical 8:
  lines w0.1: -8.12,-2.54 -7.62,-2.54 ; -8.12,2.54 -7.62,2.54 ; -7.62,-3.04 -7.62,-2.54 ; -7.62,-2.04 -7.62,-2.54 ; -7.62,2.04 -7.62,2.54 ; -7.62,3.04 -7.62,2.54 ; -7.12,-2.54 -7.62,-2.54 ; -7.12,2.54 -7.62,2.54 ; -3.04,-2.54 -2.54,-2.54 ; -3.04,2.54 -2.54,2.54 ; -2.54,-3.04 -2.54,-2.54 ; -2.54,-2.04 -2.54,-2.54 ; -2.54,2.04 -2.54,2.54 ; -2.54,3.04 -2.54,2.54 ; -2.04,-2.54 -2.54,-2.54 ; -2.04,2.54 -2.54,2.54 ; -0.5,0 0,0 ; 0,-0.5 0,0 ; 0,0.5 0,0 ; 0.5,0 0,0 ; 2.04,-2.54 2.54,-2.54 ; 2.04,2.54 2.54,2.54 ; 2.54,-3.04 2.54,-2.54 ; 2.54,-2.04 2.54,-2.54 ; 2.54,2.04 2.54,2.54 ; 2.54,3.04 2.54,2.54 ; 3.04,-2.54 2.54,-2.54 ; 3.04,2.54 2.54,2.54 ; 7.12,-2.54 7.62,-2.54 ; 7.12,2.54 7.62,2.54 ; 7.62,-3.04 7.62,-2.54 ; 7.62,-2.04 7.62,-2.54 ; 7.62,2.04 7.62,2.54 ; 7.62,3.04 7.62,2.54 ; 8.12,-2.54 7.62,-2.54 ; 8.12,2.54 7.62,2.54
Mechanical 14:
  lines w0.1: -10.16,7.84 -6.58,7.84 ; -5.08,7.84 5.08,7.84 ; 6.58,7.84 10.16,7.84 ; 6.58,12.073 5.08,12.073 5.08,3.74 6.58,3.74 6.58,12.08 ; -10.16,-4.06 -10.16,16.19 10.16,16.19 10.16,-4.06 -10.16,-4.06 ; -6.58,3.74 -6.58,12.073 -5.08,12.073 -5.08,3.74 -6.58,3.74
  text "1" at -7.872,-0.66 h1.2
  text "2" at -2.867,-0.66 h1.2
  text "3" at 2.213,-0.66 h1.2
  text "4" at 7.293,-0.66 h1.2
3D body: height 10.28, standoff -3.2, extent -10.16,-4.06 10.16,16.19

## WEIDMULLER_1760490000 [mm] "Terminal Block, 24A 600V, Pitch 5.08mm, 2 Positions, Screw Connection"
height 10
pads (2):
  round 2 hole 1.3: 1(-2.54,0) 2(2.54,0)
Top Overlay:
  circle w0.2: c2.54,0.577 r2
  circle w0.2: c-2.54,0.577 r2
  lines w0.2: -5.08,-3.25 -3.525,-3.25 ; -5.08,-2.25 -3.525,-2.25 ; -5.08,2.75 5.08,2.75 ; -5.08,2.95 -5.18,2.95 -5.38,2.75 -5.58,2.75 -5.58,3.75 -5.38,3.75 -5.18,3.55 -5.08,3.55 ; -4.19,1.52 -3.593,0.923 ; -3.483,2.227 -2.651,1.396 ; -1.617,-1.053 -1.597,-1.073 ; -1.35,-3.25 1.375,-3.25 ; -1.35,-2.25 1.375,-2.25 ; -1.144,-0.111 -0.89,-0.366 ; 0.89,1.52 1.487,0.923 ; 1.597,2.227 2.429,1.396 ; 3.463,-1.053 3.483,-1.073 ; 3.525,-3.25 5.08,-3.25 ; 3.525,-2.25 5.08,-2.25 ; 3.936,-0.111 4.19,-0.366 ; 5.08,-1.55 5.13,-1.55 5.33,-1.75 5.53,-1.75 5.53,-0.75 5.33,-0.75 5.13,-0.95 5.08,-0.95 ; -5.08,-3.75 5.08,-3.75 5.08,4.25 -5.08,4.25 -5.08,-3.75
  text "2" at 2.169,-3.2 h1
  text "1" at -2.792,-3.2 h1
Mechanical 8:
  lines w0.1: -3.04,0 -2.54,0 ; -2.54,-0.5 -2.54,0 ; -2.54,0.5 -2.54,0 ; -2.04,0 -2.54,0 ; -0.5,0 0,0 ; 0,-0.5 0,0 ; 0,0.5 0,0 ; 0.5,0 0,0 ; 2.04,0 2.54,0 ; 2.54,-0.5 2.54,0 ; 2.54,0.5 2.54,0 ; 3.04,0 2.54,0
Mechanical 14:
  circle w0.1: c2.54,0.577 r2
  circle w0.1: c2.54,0.577 r1.9
  circle w0.1: c-2.54,0.577 r2
  circle w0.1: c-2.54,0.577 r1.9
  lines w0.1: -5.08,-3.25 5.08,-3.25 ; -5.08,-2.25 5.08,-2.25 ; -5.08,2.75 5.08,2.75 ; -5.08,2.95 -5.18,2.95 -5.38,2.75 -5.58,2.75 -5.58,3.75 -5.38,3.75 -5.18,3.55 -5.08,3.55 ; -4.19,1.52 -1.597,-1.073 ; -3.483,2.227 -0.89,-0.366 ; 0.89,1.52 3.483,-1.073 ; 1.597,2.227 4.19,-0.366 ; 5.08,-1.55 5.13,-1.55 5.33,-1.75 5.53,-1.75 5.53,-0.75 5.33,-0.75 5.13,-0.95 5.08,-0.95 ; -5.08,-3.75 5.08,-3.75 5.08,4.25 -5.08,4.25 -5.08,-3.75
  text "1" at -2.792,-3.2 h1
  text "2" at 2.169,-3.2 h1
3D body: height 10, standoff -3.5, extent -5.58,-3.75 5.53,4.25